# Altium schematic symbol library fan_temp.SchLib: 7 symbols
Pins are listed as number, name and electrical type; pins without a type are passive.

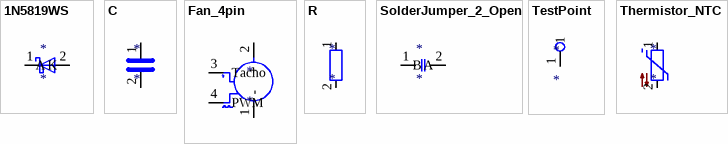
[diagram p0: symbols 1N5819WS to Thermistor_NTC]

## 1N5819WS
designator *
pins: 1 K, 2 A

## C
designator *
pins: 1, 2

## Fan_4pin
designator *
pins: 1 -, 2 +, 3 Tacho, 4 PWM

## R
designator *
pins: 1, 2

## SolderJumper_2_Open
designator *
pins: 1 A, 2 B

## TestPoint
designator *
pins: 1

## Thermistor_NTC
designator *
pins: 1, 2